# EAGLE library part MOTOR_3-PHASEN_STERN-DREIECK-ANLAUF_ALTERNATIV (library e-motoren)
3-Phasen-Wechselstrom-Motor (alternativ)
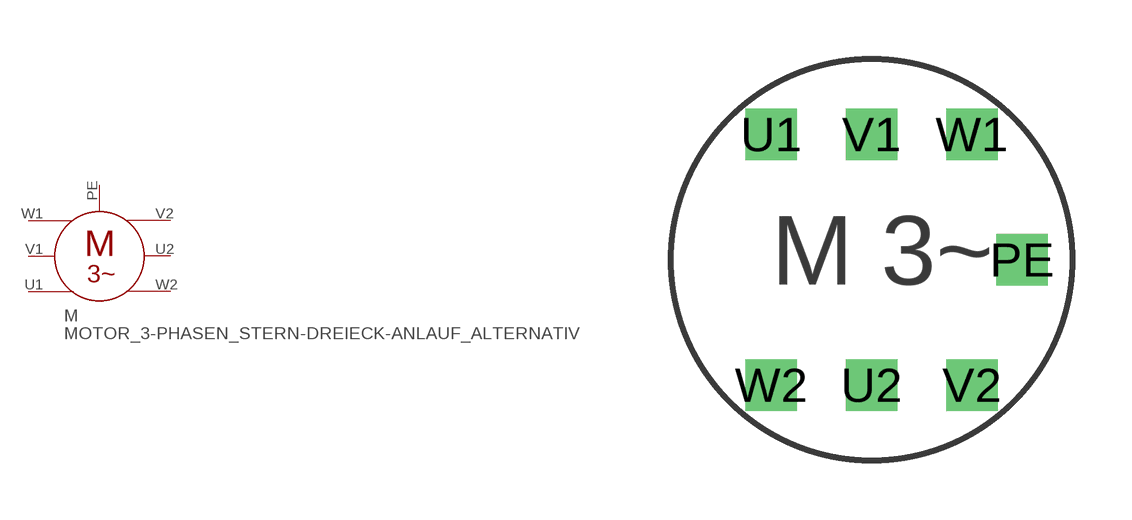
[diagram p1: symbol with the pads of MOTOR_3-PHASEN_STERN-DREIECK-ANLAUF_ALTERNATIV; footprint MOTOR_3-PHASEN_STERN-DREIECK-ANLAUF_ALTERNATIV]

Designator prefix M

## MOTOR_3-PHASEN_STERN-DREIECK-ANLAUF_ALTERNATIV  [MOTOR_3-PHASEN_STERN-DREIECK-ANLAUF_ALTERNATIV]
PE  PE  pas
U1  U1  pas
U2  U2  pas
V1  V1  pas
V2  V2  pas
W1  W1  pas
W2  W2  pas

## Footprint MOTOR_3-PHASEN_STERN-DREIECK-ANLAUF_ALTERNATIV (pad centres in mm)
Dummy
drill 0.8 square: PE 3.81,0; U1 -2.54,3.175; U2 0,-3.175; V1 0,3.175; V2 2.54,-3.175; W1 2.54,3.175; W2 -2.54,-3.175